# Altium footprint library uMAX08-SPE-DS1339A.PcbLib: 1 footprints
Each footprint in its own frame and in the unit in brackets; x right, y up, seen from the top. Pads: shape width x height; smd on the part's side, far side on the other; paste and mask are expansions set on the pad; w line width, h text height; cw(c..) or ccw(c..) is an arc to the next point about the centre after c.
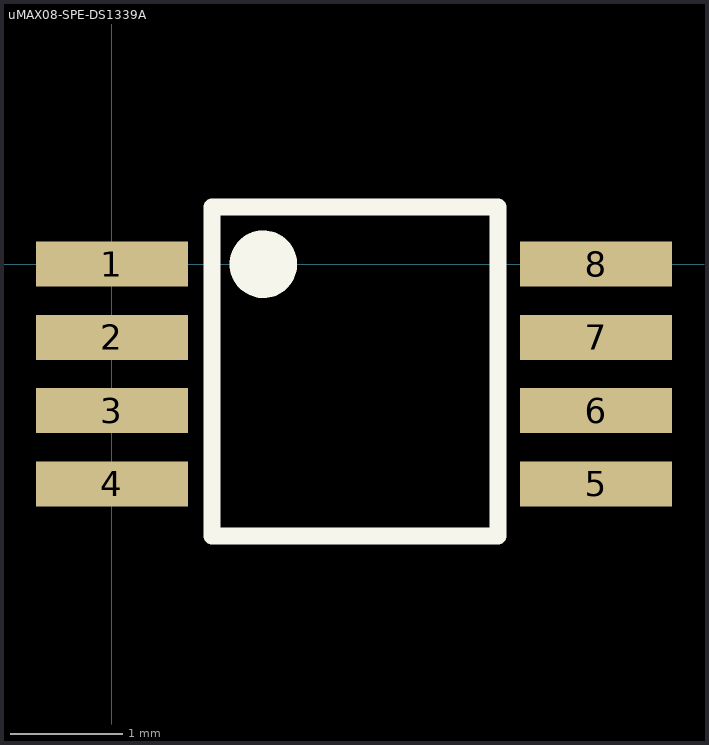
[diagram p0: the footprint, top view; thin cyan lines are the x and y axes]

## uMAX08-SPE-DS1339A [mm]
pads (8):
  rect 1.35x0.4 smd: 1(0,0) 2(0,-0.65) 3(0,-1.3) 4(0,-1.95) 5(4.3,-1.95) 6(4.3,-1.3) 7(4.3,-0.65) 8(4.3,0)
Top Overlay:
  circle w0.3: c1.344,0 r0.15
  lines w0.15: 0.889,-2.413 3.429,-2.413 3.429,0.508 0.889,0.508 0.889,-2.413
3D body: height 0.92, standoff -0.03, extent -0.365,-2.492 4.636,0.508